# Altium footprint library transition45.PcbLib: 1 footprints
Each footprint in its own frame and in the unit in brackets; x right, y up, seen from the top. Pads: shape width x height; smd on the part's side, far side on the other; paste and mask are expansions set on the pad; w line width, h text height; cw(c..) or ccw(c..) is an arc to the next point about the centre after c.
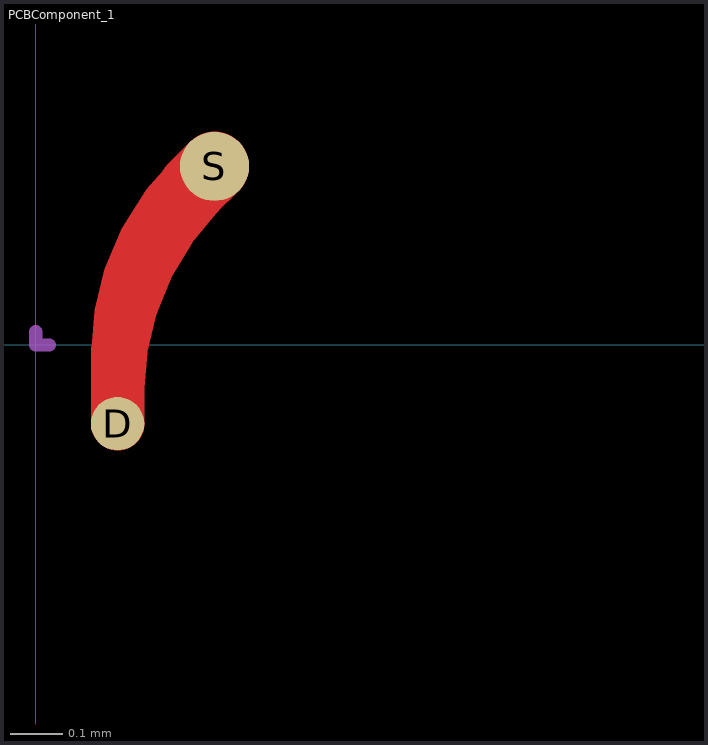
[diagram p0: the footprint, top view; thin cyan lines are the x and y axes]

## PCBComponent_1 [mil]
pads (2):
  round 4 smd paste-99999 mask+0: D(6.11,-5.89)
  round 5.18 smd paste-99999 mask+0: S(13.37,13.37)
Top Layer:
  region: 4.61,-0.72 5.71,5.81 8.97,11.74 13.29,10.34 10.63,6.95 9.08,3.38 7.86,-0.45
  lines w1: 4.61,-0.72 cw(c24.61,-0.72) 10.74,13.69 ; 7.61,-3.63 cw(c27.61,-3.63) 13.29,10.34
  lines w4: 6.11,-5.89 6.11,-0.45
  lines w5.18: 11.74,11.74 13.37,13.37
Mechanical 1:
  lines w1: 0,1 0,0 1,0